# Altium footprint library HANDS-FREEE-PcbLib-V1.10.PcbLib: 197 footprints (part 9 of 13)
Each footprint in its own frame and in the unit in brackets; x right, y up, seen from the top. Pads: shape width x height; smd on the part's side, far side on the other; paste and mask are expansions set on the pad; w line width, h text height; cw(c..) or ccw(c..) is an arc to the next point about the centre after c.
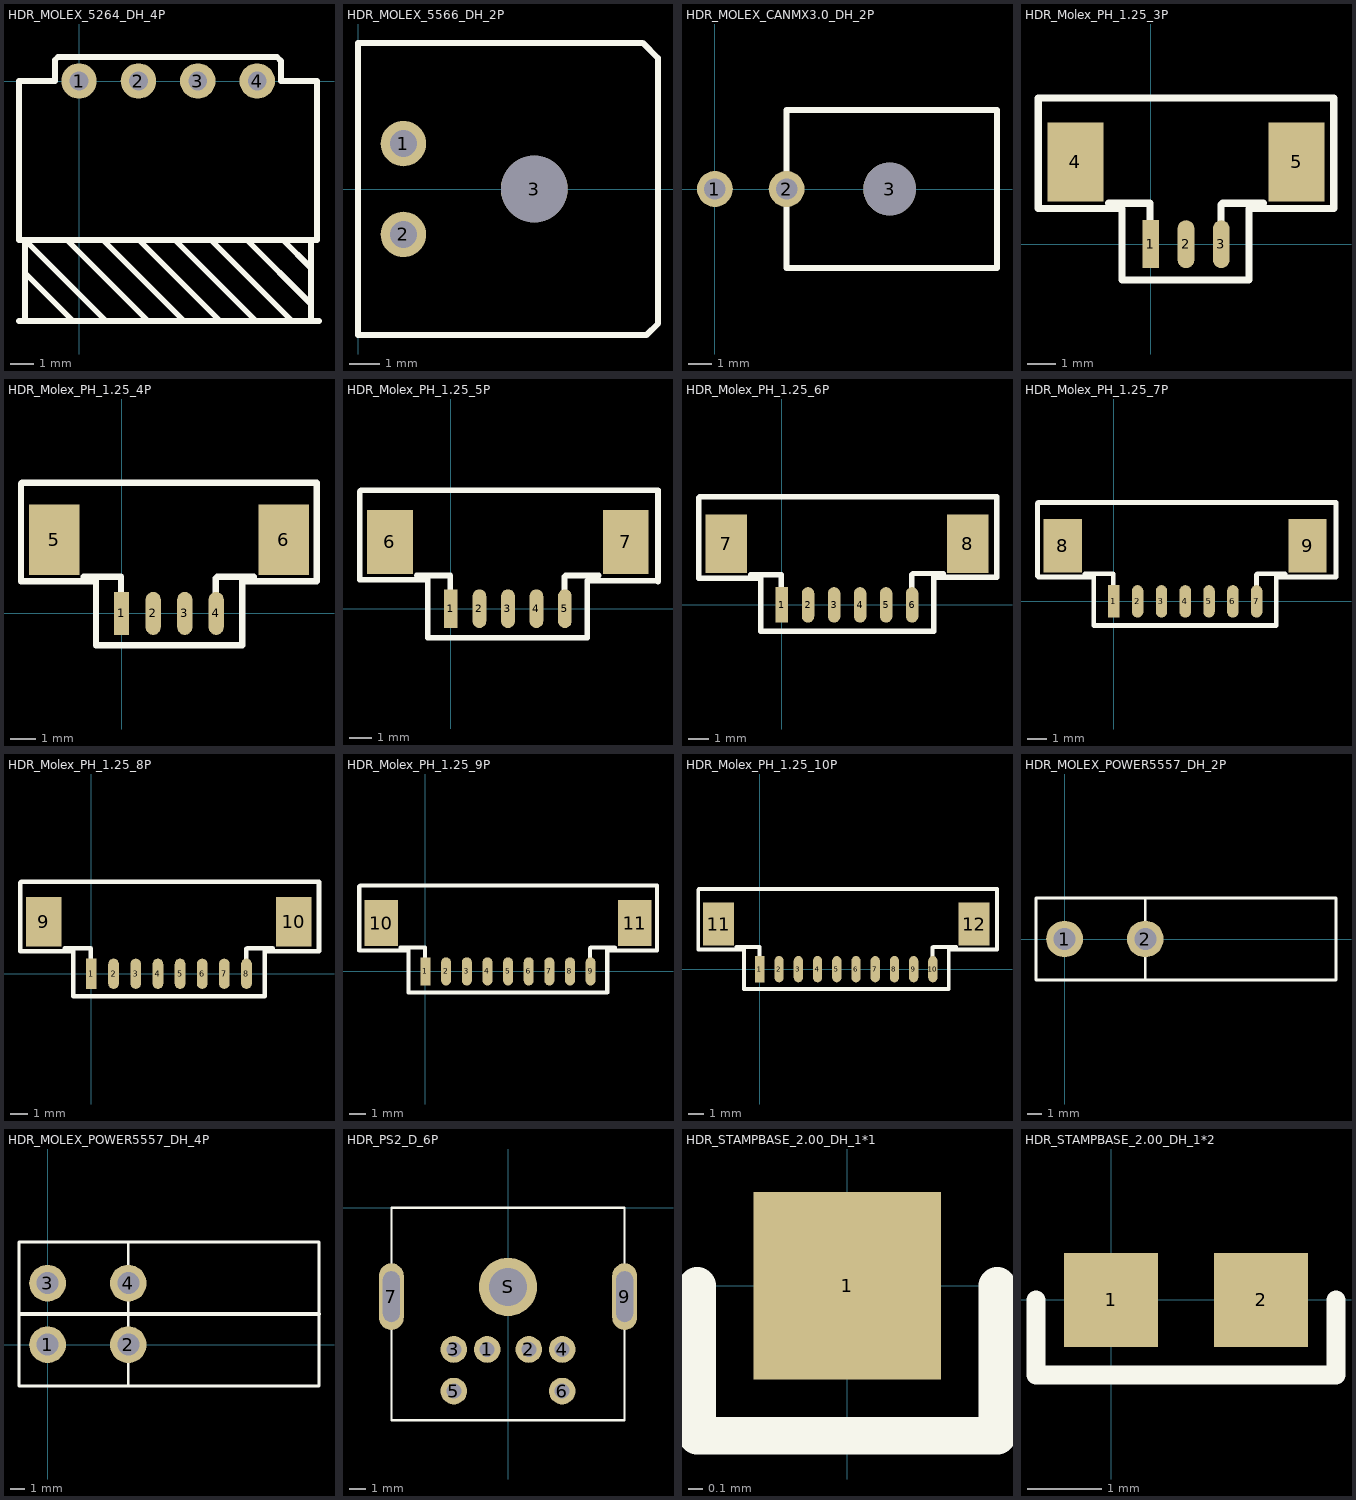
[diagram p8: the footprints below, top view; thin cyan lines are the x and y axes]

## HDR_MOLEX_5264_DH_4P [mm]
pads (4):
  round 1.5 hole 0.8: 1(0,0) 2(2.515,0) 3(5.029,0) 4(7.544,0)
Top Overlay:
  lines w0.254: -2.54,-10.16 -2.286,-10.16 ; -2.286,-8.128 -0.254,-10.16 ; -0.508,-6.731 2.921,-10.16 ; 1.016,-6.731 4.445,-10.16 ; 1.143,-10.16 -2.286,-6.731 -2.286,-10.16 ; 2.54,-6.731 5.969,-10.16 ; 4.064,-6.731 7.493,-10.16 ; 5.588,-6.731 9.017,-10.16 ; 7.112,-6.731 9.804,-9.423 ; 8.636,-6.731 9.804,-7.899 ; 9.83,-6.731 9.83,-10.16 ; 10.16,-10.16 9.83,-10.16 ; -2.286,-10.16 9.83,-10.16 ; -2.54,-6.731 10.084,-6.731 10.084,0 8.56,0 8.56,0.838 8.382,1.016 -0.889,1.016 -1.016,0.889 -1.016,0 -2.54,0 -2.54,-6.731

## HDR_MOLEX_5566_DH_2P [mm]
pads (3):
  round 1.5 hole 0.9: 1(1.5,1.5) 2(1.5,-1.5)
  round 2.2 hole 2.2: 3(5.82,0)
Top Overlay:
  lines w0.2: 0,-4.826 9.525,-4.826 9.906,-4.445 9.906,4.318 9.398,4.826 0,4.826 0,-4.826

## HDR_MOLEX_CANMX3.0_DH_2P [mm]
pads (3):
  round 1.5 hole 0.9: 1(0,0) 2(3,0)
  round 2.2 hole 2.2: 3(7.315,0)
Top Overlay:
  lines w0.254: 3,-3.302 3,3.302 11.811,3.302 11.811,-3.302 3,-3.302

## HDR_Molex_PH_1.25_3P [mm]
pads (5):
  rect 0.6x1.7 smd: 1(0,0)
  oval 0.6x1.7 smd: 2(1.25,0) 3(2.5,0)
  rect 2x2.8 smd: 4(-2.667,2.921) 5(5.167,2.921)
Top Overlay:
  lines w0.254: -1.499,1.448 -0.051,1.448 ; -0.025,0.051 -0.025,1.448 ; 2.489,0 2.489,1.397 2.54,1.448 3.988,1.448 ; 3.48,1.27 3.48,-1.27 -1.016,-1.27 -1.016,1.27 -3.988,1.27 -3.988,5.182 6.488,5.182 6.488,1.27 3.516,1.27

## HDR_Molex_PH_1.25_4P [mm]
pads (6):
  rect 0.6x1.7 smd: 1(0,0)
  oval 0.6x1.7 smd: 2(1.25,0) 3(2.5,0) 4(3.745,0)
  rect 2x2.8 smd: 5(-2.667,2.921) 6(6.417,2.921)
Top Overlay:
  lines w0.254: -1.499,1.448 -0.051,1.448 ; -1.016,-1.27 -1.016,1.27 -3.988,1.27 -3.988,5.131 -3.937,5.182 7.722,5.182 7.722,1.27 4.775,1.27 4.775,-1.27 -0.965,-1.27 -1.016,-1.219 ; -0.025,0.051 -0.025,1.448 ; 3.734,0 3.734,1.397 3.785,1.448 5.232,1.448

## HDR_Molex_PH_1.25_5P [mm]
pads (7):
  rect 0.6x1.7 smd: 1(0,0)
  oval 0.6x1.7 smd: 2(1.25,0) 3(2.5,0) 4(3.745,0) 5(4.989,0)
  rect 2x2.8 smd: 6(-2.667,2.921) 7(7.656,2.921)
Top Overlay:
  lines w0.254: -1.499,1.448 -0.051,1.448 ; -0.025,0.051 -0.025,1.448 ; 4.978,0 4.978,1.397 5.029,1.448 6.477,1.448 ; 8.941,1.219 5.969,1.219 5.969,-1.27 -1.016,-1.27 -1.016,1.27 -3.988,1.27 -3.988,5.131 -3.937,5.182 7.722,5.182 9.068,5.182 9.068,1.194

## HDR_Molex_PH_1.25_6P [mm]
pads (8):
  rect 0.6x1.7 smd: 1(0,0)
  oval 0.6x1.7 smd: 2(1.25,0) 3(2.5,0) 4(3.745,0) 5(4.989,0) 6(6.234,0)
  rect 2x2.8 smd: 7(-2.667,2.921) 8(8.901,2.921)
Top Overlay:
  lines w0.254: -3.988,1.27 -1.016,1.27 -1.016,-1.27 7.264,-1.27 ; -3.937,1.27 -3.988,1.321 -3.988,5.131 -3.937,5.182 7.722,5.182 10.287,5.182 10.287,1.321 ; -1.499,1.448 -0.051,1.448 ; -0.025,0.051 -0.025,1.448 ; 6.223,0.051 6.223,1.448 6.274,1.499 7.722,1.499 ; 7.264,-1.219 7.264,1.321 10.236,1.321

## HDR_Molex_PH_1.25_7P [mm]
pads (9):
  rect 0.6x1.7 smd: 1(0,0)
  oval 0.6x1.7 smd: 2(1.25,0) 3(2.5,0) 4(3.745,0) 5(4.989,0) 6(6.234,0) 7(7.478,0)
  rect 2x2.8 smd: 8(-2.667,2.921) 9(10.145,2.921)
Top Overlay:
  lines w0.254: -3.988,1.321 -3.988,5.131 -3.937,5.182 7.722,5.182 11.633,5.182 11.633,1.27 8.509,1.27 8.509,-1.27 -1.041,-1.27 -1.041,1.27 -3.937,1.27 ; -1.499,1.448 -0.051,1.448 ; -0.025,0.051 -0.025,1.448 ; 7.468,0 7.468,1.397 7.518,1.448 8.966,1.448

## HDR_Molex_PH_1.25_8P [mm]
pads (10):
  rect 0.6x1.7 smd: 1(0,0)
  oval 0.6x1.7 smd: 2(1.25,0) 3(2.5,0) 4(3.745,0) 5(4.989,0) 6(6.234,0) 7(7.478,0) 8(8.723,0)
  rect 2x2.8 smd: 9(-2.667,2.921) 10(11.39,2.921)
Top Overlay:
  lines w0.254: -1.499,1.448 -0.051,1.448 ; -0.025,0.051 -0.025,1.448 ; 8.712,0 8.712,1.397 8.763,1.448 10.211,1.448 ; 12.725,1.27 9.754,1.27 9.754,-1.27 -1.016,-1.27 -1.016,1.27 -3.988,1.27 -3.988,5.131 -3.937,5.182 7.722,5.182 12.802,5.182 12.802,1.27

## HDR_Molex_PH_1.25_9P [mm]
pads (11):
  rect 0.6x1.7 smd: 1(0,0)
  oval 0.6x1.7 smd: 2(1.25,0) 3(2.5,0) 4(3.745,0) 5(4.989,0) 6(6.234,0) 7(7.478,0) 8(8.723,0) 9(9.968,0)
  rect 2x2.8 smd: 10(-2.667,2.921) 11(12.635,2.921)
Top Overlay:
  lines w0.254: -1.499,1.448 -0.051,1.448 ; -0.025,0.051 -0.025,1.448 ; 9.931,0 9.931,1.397 9.982,1.448 11.43,1.448 ; 13.945,1.27 10.973,1.27 10.973,-1.27 -1.016,-1.27 -1.016,1.27 -3.988,1.27 -3.988,5.131 -3.937,5.182 7.722,5.182 13.97,5.182 13.97,1.27

## HDR_Molex_PH_1.25_10P [mm]
pads (12):
  rect 0.6x1.7 smd: 1(0,0)
  oval 0.6x1.7 smd: 2(1.25,0) 3(2.5,0) 4(3.745,0) 5(4.989,0) 6(6.234,0) 7(7.478,0) 8(8.723,0) 9(9.968,0) 10(11.212,0)
  rect 2x2.8 smd: 11(-2.667,2.921) 12(13.879,2.921)
Top Overlay:
  lines w0.254: -1.499,1.448 -0.051,1.448 ; -0.025,0.051 -0.025,1.448 ; 11.201,0 11.201,1.397 11.252,1.448 12.7,1.448 ; -3.988,1.27 -1.016,1.27 -1.016,-1.27 12.243,-1.27 12.243,1.27 15.367,1.27 15.367,5.182 7.722,5.182 -3.937,5.182 -3.988,5.131 -3.988,1.27

## HDR_MOLEX_POWER5557_DH_2P [mm]
pads (2):
  round 2.5 hole 1.5: 1(0,0) 2(5.5,0)
Top Overlay:
  lines w0.2: 5.5,-2.8 -1.941,-2.8 -1.947,-2.794 -1.947,2.8 5.5,2.8 ; 5.5,-2.8 5.5,2.8 ; 5.5,-2.8 18.5,-2.8 18.5,2.8 5.5,2.8

## HDR_MOLEX_POWER5557_DH_4P [mm]
pads (4):
  round 2.5 hole 1.5: 1(0,0) 2(5.5,0) 3(0,4.191) 4(5.5,4.191)
Top Overlay:
  lines w0.2: 5.5,-2.8 18.5,-2.8 18.5,6.985 5.5,6.985 ; 5.5,-2.8 -1.941,-2.8 -1.947,-2.794 -1.947,6.985 5.5,6.985 ; 5.5,-2.8 5.5,6.985
  lines w0.254: -1.905,2.095 18.5,2.095

## HDR_PS2_D_6P [mm]
pads (9):
  round 1.6 hole 0.9: 1(-1.25,-8.5) 2(1.25,-8.5) 3(-3.25,-8.5) 4(3.25,-8.5) 5(-3.25,-11) 6(3.25,-11)
  oval 1.5x4 hole 1 slot 3.048 at 90 deg: 7(-7,-5.334) 9(7,-5.334)
  round 3.5 hole 2.3: S(0,-4.75)
Top Overlay:
  lines w0.127: -7,-12.75 7,-12.75 7,0 -7,0 -7,-12.75

## HDR_STAMPBASE_2.00_DH_1*1 [mil]
pads (1):
  rect 50x50 smd: 1(0,0)
Top Overlay:
  lines w10: -40,0 -40,-40 40,-40 40,0

## HDR_STAMPBASE_2.00_DH_1*2 [mil]
pads (2):
  rect 50x50 smd: 1(0,0) 2(80,0)
Top Overlay:
  lines w10: -40,0 -40,-40 120,-40 120,0